# Altium schematic symbol library ControlBoard.SchLib: 16 symbols
Pins are listed as number, name and electrical type; pins without a type are passive.

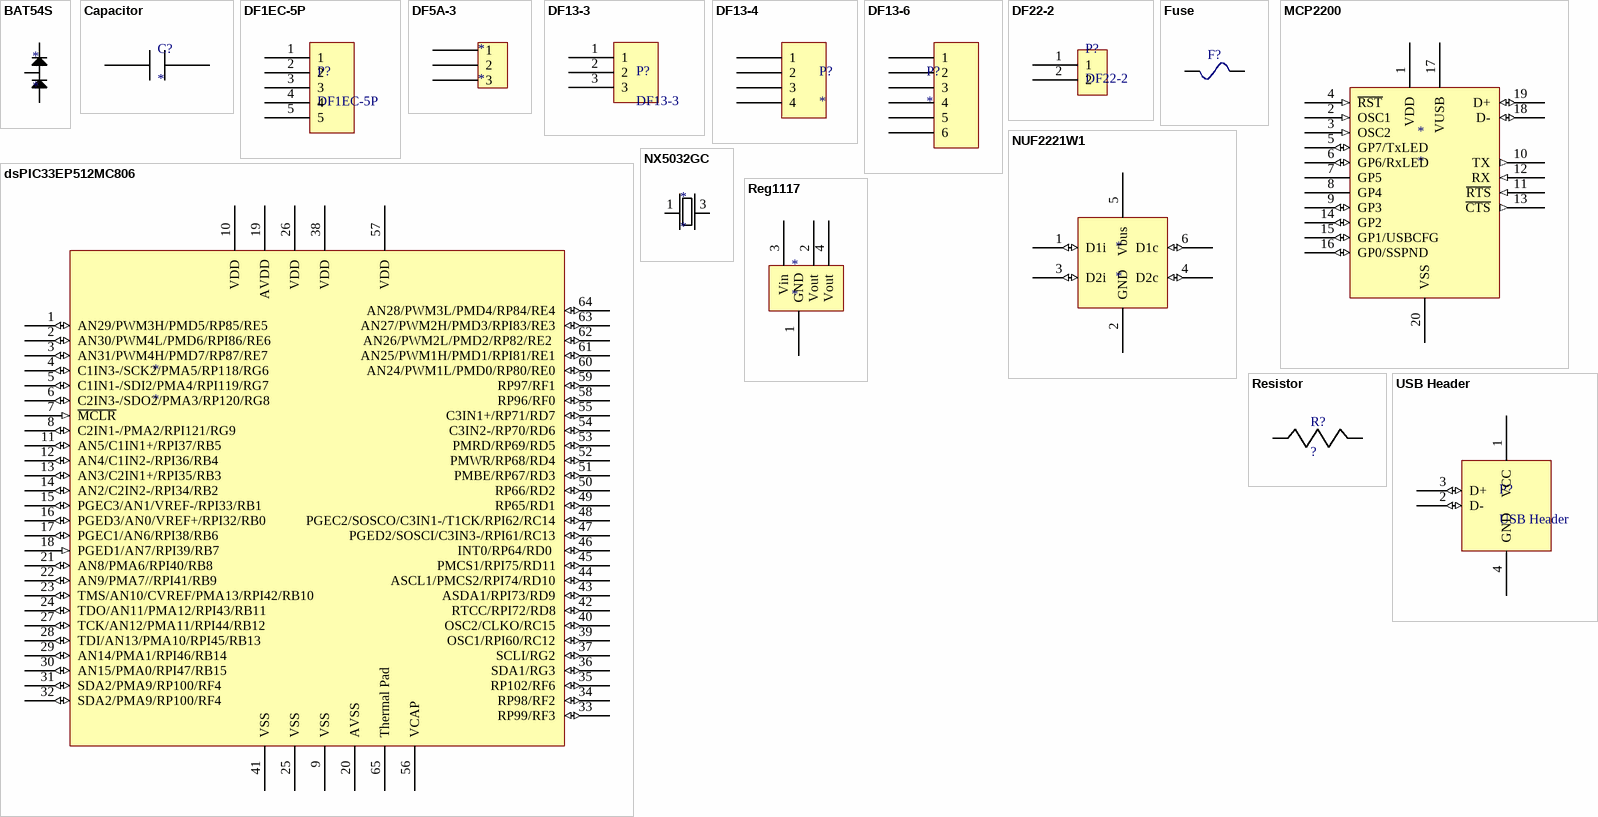
[diagram p0: symbols BAT54S to USB Header]

## BAT54S
designator *
footprint SOT90P240X110-3N (SOT23, 3-Leads, Body 2.90x2.40mm, Pitch 0.90mm, IPC Medium Density)
pins: 1 D1i, 2 D1i, 3 D1i

## Capacitor
designator C?
footprint CAPC1005X06N (Chip Capacitor, 2-Leads, Body 1.00x0.50mm, IPC Medium Density)
pins: 1, 2

## DF1EC-5P
designator P?
footprint DF1EC-4P
pins: 1, 2, 3, 4, 5

## DF5A-3
designator *
footprint DF5A-3
pins: 1, 2, 3

## DF13-3
designator P?
footprint DF13-3 (Part number: DF13C-3P-1.25V(21))
pins: 1, 2, 3

## DF13-4
designator P?
footprint DF13-4S-1.25DS (DF13, 4 pin through hole 1.25mm)
footprint DF13-4S-1.25H (Hirose DF13 horizontal SMD 4 pin)
pins: 1, 2, 3, 4

## DF13-6
designator P?
footprint DF13-6S-1.25DS (DF13, 6 pin through hole 1.25mm)
footprint DF13-6S-1.25H (Hirose DF13 Horisontal SMD 6 pin)
footprint DF13-6S-1.25H (Hirose DF13 Horisontal SMD 6 pin)
pins: 1, 2, 3, 4, 5, 6

## DF22-2
designator P?
CONN HEADER 2POS 7.92MM PCB TIN
footprint DF22-2 (CONN HEADER 2POS 7.92MM PCB TIN)
pins: 1, 2

## dsPIC33EP512MC806
designator *
footprint QFN50P900X900X100_HS-65N (QFN, 64-Leads, Body 9.00x9.00mm, Pitch 0.50mm, Thermal Pad 7.28x7.28mm, IPC Medium Density)
pins: 1 AN29/PWM3H/PMD5/RP85/RE5 (io), 2 AN30/PWM4L/PMD6/RPI86/RE6 (io), 3 AN31/PWM4H/PMD7/RP87/RE7 (io), 4 C1IN3-/SCK2/PMA5/RP118/RG6 (io), 5 C1IN1-/SDI2/PMA4/RPI119/RG7 (io), 6 C2IN3-/SDO2/PMA3/RP120/RG8 (io), 7 ~{MCLR} (in), 8 C2IN1-/PMA2/RPI121/RG9 (io), 9 VSS (power), 10 VDD (power), 11 AN5/C1IN1+/RPI37/RB5 (io), 12 AN4/C1IN2-/RPI36/RB4 (io), 13 AN3/C2IN1+/RPI35/RB3 (io), 14 AN2/C2IN2-/RPI34/RB2 (io), 15 PGEC3/AN1/VREF-/RPI33/RB1 (io), 16 PGED3/AN0/VREF+/RPI32/RB0 (io), 17 PGEC1/AN6/RPI38/RB6 (io), 18 PGED1/AN7/RPI39/RB7 (in), 19 AVDD (power), 20 AVSS, 21 AN8/PMA6/RPI40/RB8 (io), 22 AN9/PMA7//RPI41/RB9 (io), 23 TMS/AN10/CVREF/PMA13/RPI42/RB10 (io), 24 TDO/AN11/PMA12/RPI43/RB11 (io), 25 VSS, 26 VDD, 27 TCK/AN12/PMA11/RPI44/RB12 (io), 28 TDI/AN13/PMA10/RPI45/RB13 (io), 29 AN14/PMA1/RPI46/RB14 (io), 30 AN15/PMA0/RPI47/RB15  (io), 31 SDA2/PMA9/RP100/RF4 (io), 32 SDA2/PMA9/RP100/RF4 (io), 33 RP99/RF3 (io), 34 RP98/RF2 (io), 35 RP102/RF6 (io), 36 SDA1/RG3 (io), 37 SCLI/RG2 (io), 38 VDD (power), 39 OSC1/RPI60/RC12 (io), 40 OSC2/CLKO/RC15 (io), 41 VSS (power), 42 RTCC/RPI72/RD8 (io), 43 ASDA1/RPI73/RD9 (io), 44 ASCL1/PMCS2/RPI74/RD10 (io), 45 PMCS1/RPI75/RD11 (io), 46 INT0/RP64/RD0  (io), 47 PGED2/SOSCI/C3IN3-/RPI61/RC13 (io), 48 PGEC2/SOSCO/C3IN1-/T1CK/RPI62/RC14 (io), 49 RP65/RD1 (io), 50 RP66/RD2 (io), 51 PMBE/RP67/RD3 (io), 52 PMWR/RP68/RD4 (io), 53 PMRD/RP69/RD5 (io), 54 C3IN2-/RP70/RD6 (io), 55 C3IN1+/RP71/RD7 (io), 56 VCAP (power), 57 VDD (power), 58 RP96/RF0 (io), 59 RP97/RF1 (io), 60 AN24/PWM1L/PMD0/RP80/RE0 (io), 61 AN25/PWM1H/PMD1/RPI81/RE1 (io), 62 AN26/PWM2L/PMD2/RP82/RE2  (io), 63 AN27/PWM2H/PMD3/RPI83/RE3 (io), 64 AN28/PWM3L/PMD4/RP84/RE4 (io), 65 Thermal Pad (power)

## Fuse
designator F?
FUSE 2A 250/277V RADIAL
footprint RSTA 2-BULK
footprint 56400001009 (FUSE HOLDER RADIAL 250V 6.3A SMD)
pins: 1 30, 2 31

## MCP2200
designator *
footprint SOP65P780X200-20N (SOP, 20-Leads, Body 7.20x5.30mm, Pitch 0.65mm, IPC Medium Density)
pins: 1 VDD, 2 OSC1 (in), 3 OSC2 (in), 4 ~{RST} (in), 5 GP7/TxLED (io), 6 GP6/RxLED (io), 7 GP5, 8 GP4, 9 GP3 (io), 10 TX (out), 11 ~{RTS} (in), 12 RX (in), 13 ~{CTS} (out), 14 GP2 (io), 15 GP1/USBCFG (io), 16 GP0/SSPND (io), 17 VUSB (power), 18 D- (io), 19 D+ (io), 20 VSS (power)

## NUF2221W1
designator *
footprint TSOP65P210X110-6N (TSOP, 6-Leads, Body 2.00x1.25mm, Pitch 0.65mm, IPC Medium Density)
pins: 1 D1i (io), 2 GND, 3 D2i (io), 4 D2c (io), 5 Vbus (power), 6 D1c (io)

## NX5032GC
designator *
footprint NX5032GC (4-SMD Crystal)
footprint 7M-30.000MBBK-T (CRYSTAL 30MHZ 20PF SMD)
pins: 1, 3

## Reg1117
designator *
footprint SOT230P700X180-4N (SOT223, 4-Leads, Body 6.50x7.00mm (avg), Pitch 2.30mm, IPC Medium Density)
pins: 1 GND (power), 2 Vout (power), 3 Vin (power), 4 Vout (power)

## Resistor
designator R?, comment ?
footprint CAPC1005X06N (Chip Capacitor, 2-Leads, Body 1.00x0.50mm, IPC Medium Density)
pins: 1, 2

## USB Header
designator P?
footprint USB-B (2411 02)
pins: 1 VCC (power), 2 D- (io), 3 D+ (io), 4 GND (power)